# EAGLE library part FDMD85100 (library parts)
Fairchild FDMD85100 Dual N Channel MOSFET
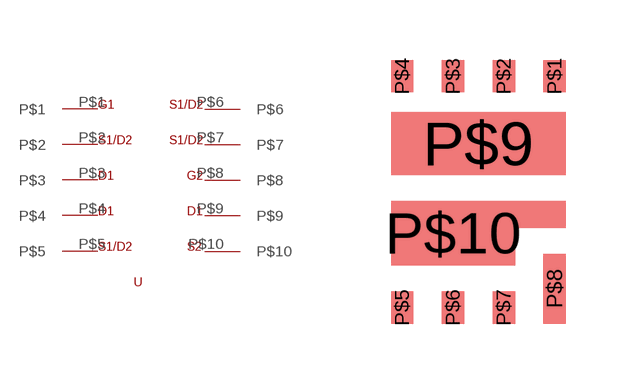
[diagram p0: symbol with the pads of HALFBRIDGE; footprint HALFBRIDGE]

Designator prefix -

## FDMD85100  [HALFBRIDGE]
P$1  P$1
P$2  P$2
P$3  P$3
P$4  P$4
P$5  P$5
P$6  P$6
P$7  P$7
P$8  P$8
P$9  P$9
P$10  P$10

## Footprint HALFBRIDGE (pad centres in mm)
Package for the FDMD85100
smd 0.56 x 0.81: P$1 1.905,2.895; P$2 0.635,2.895; P$3 -0.635,2.895; P$4 -1.905,2.895; P$5 -1.905,-2.895; P$6 -0.635,-2.895; P$7 0.635,-2.895
smd 0.56 x 1.74: P$8 1.905,-2.43
smd 4.37 x 1.58: P$9 0,1.21
smd 3.1 x 1.61: P$10 -0.635,-1.035